# Altium footprint library Parts.PcbLib: 52 footprints (part 1 of 4)
Each footprint in its own frame and in the unit in brackets; x right, y up, seen from the top. Pads: shape width x height; smd on the part's side, far side on the other; paste and mask are expansions set on the pad; w line width, h text height; cw(c..) or ccw(c..) is an arc to the next point about the centre after c.
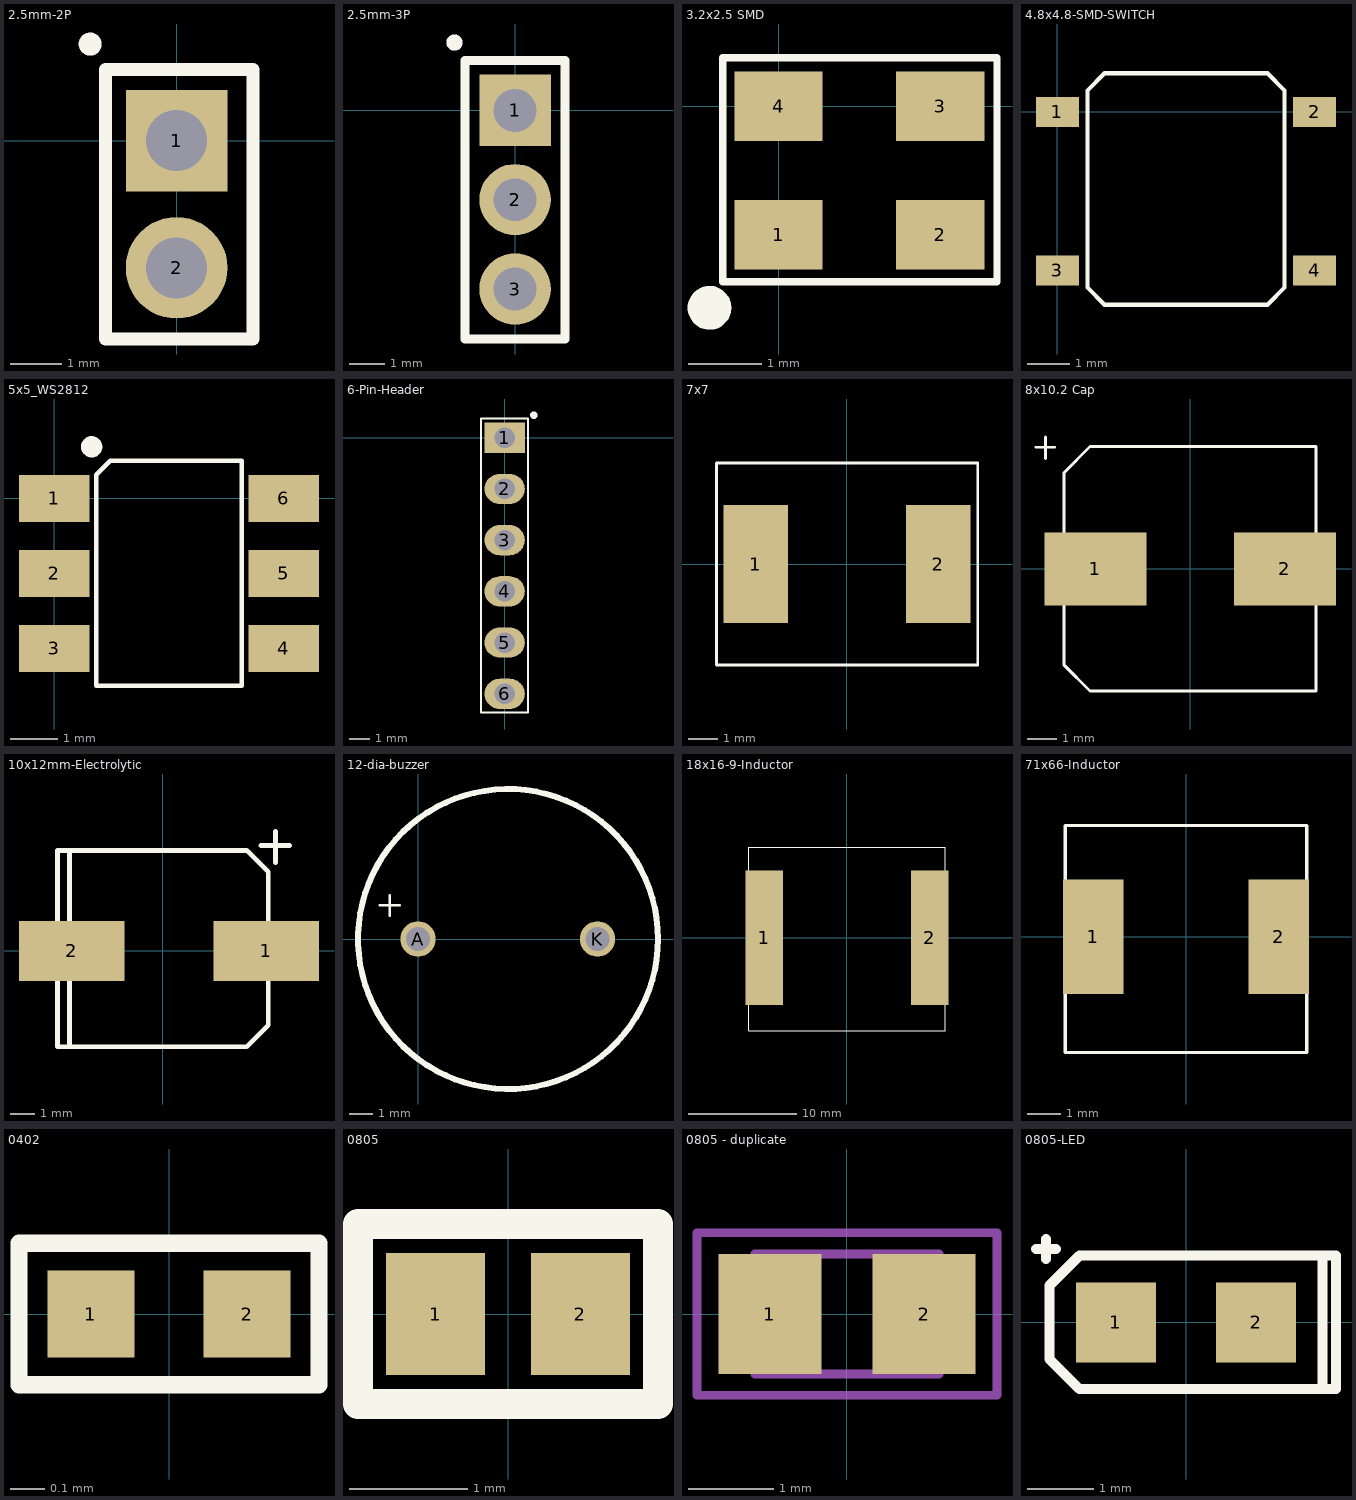
[diagram p0: the footprints below, top view; thin cyan lines are the x and y axes]

## 2.5mm-2P [mm]
pads (2):
  rect 2x2 hole 1.2: 1(0,0)
  round 2 hole 1.2: 2(0,-2.5)
Top Overlay:
  circle w0.254: c-1.7,1.9 r0.1
  lines w0.254: -1.4,-3.9 -1.4,-3.3 -1.4,1.4 1.5,1.4 1.5,-3.9 -1.4,-3.9

## 2.5mm-3P [mm]
pads (3):
  rect 2x2 hole 1.2: 1(0,0)
  round 2 hole 1.2: 2(0,-2.5) 3(0,-5)
Top Overlay:
  circle w0.254: c-1.7,1.9 r0.1
  lines w0.254: -1.4,-6.4 -1.4,-6.2 -1.4,1.4 1.4,1.4 1.4,-6.4 -1.4,-6.4

## 3.2x2.5 SMD [mm]
pads (4):
  rect 1.2x0.95 smd: 1(0,-1.75) 2(2.2,-1.75) 3(2.2,0) 4(0,0)
Top Overlay:
  circle w0.254: c-0.94,-2.743 r0.051
  circle w0.254: c-0.94,-2.743 r0.17
  lines w0.1: 0.663,0.66 2.972,0.66 2.972,-2.388 -0.762,-2.388 -0.762,0.66 1.538,0.66

## 4.8x4.8-SMD-SWITCH [mm]
pads (4):
  rect 1x0.7 smd: 1(0,0) 2(6,0) 3(0,-3.7) 4(6,-3.7)
Top Overlay:
  lines w0.1: 0.7,-4.1 0.7,0.5 1.1,0.9 4.9,0.9 5.3,0.5 5.3,-4.1 4.9,-4.5 1.1,-4.5 0.7,-4.1

## 5x5_WS2812 [mm]
pads (6):
  rect 1.5x1 smd: 1(0,0) 2(0,-1.6) 3(0,-3.2) 4(4.9,-3.2) 5(4.9,-1.6) 6(4.9,0)
Top Overlay:
  circle w0.254: c0.8,1.1 r0.1
  lines w0.1: 0.9,-4 0.9,0.5 1.2,0.8 4,0.8 4,-4 0.9,-4

## 6-Pin-Header [mm]
pads (6):
  rect 2x1.5 hole 1.02: 1(0,0)
  oval 2x1.5 hole 1.02: 2(0,-2.54) 3(0,-5.08) 4(0,-7.62) 5(0,-10.16) 6(0,-12.7)
Top Overlay:
  circle w0.254: c1.448,1.118 r0.057
  lines w0.1: -1.168,-13.614 -1.168,0.94 1.168,0.94 1.168,-13.614 -1.168,-13.614

## 7x7 [mm]
pads (2):
  rect 2.2x4 smd: 1(-3.1,0) 2(3.1,0)
Top Overlay:
  lines w0.1: -4.438,-3.429 -4.438,-0.494 -4.438,1.434 -4.438,3.429 4.445,3.429 4.445,-3.429 -4.438,-3.429

## 8x10.2 Cap [mm]
pads (2):
  rect 3.5x2.5 smd: 1(-3.25,0) 2(3.25,0)
Top Overlay:
  lines w0.1: -5.283,4.166 -4.648,4.166 ; -4.953,3.785 -4.953,4.521 ; -4.318,-3.302 -4.318,0.076 -4.318,3.302 -3.429,4.191 4.318,4.191 4.318,-4.191 -3.429,-4.191 -4.318,-3.302

## 10x12mm-Electrolytic [mm]
pads (2):
  rect 4.4x2.5 smd: 1(4.318,0) 2(-3.81,0)
Top Overlay:
  lines w0.2: -3.9,-4 -3.9,4.2 ; 4.1,4.4 5.3,4.4 ; 4.7,3.7 4.7,5 ; -4.4,-4 -4.4,4.2 3.5,4.2 4.4,3.3 4.4,-3.1 3.5,-4 -4.4,-4

## 12-dia-buzzer [mm]
pads (2):
  round 1.5 hole 1: A(0,0) K(7.6,0)
Top Overlay:
  circle w0.254: c3.81,0 r6.35
  lines w0.1: -1.626,1.422 -0.762,1.422 ; -1.194,0.991 -1.194,1.854 -1.194,1.422

## 18x16-9-Inductor [mm]
pads (2):
  rect 3.5x12.5 smd: 1(-7.675,0) 2(7.675,0)
Top Overlay:
  lines w0.1: -9.144,-8.636 0.588,-8.636 9.144,-8.636 9.144,8.382 -9.144,8.382 -9.144,-8.636

## 71x66-Inductor [mm]
pads (2):
  rect 1.8x3.4 smd: 1(-2.75,0) 2(2.75,0)
Top Overlay:
  lines w0.1: -3.581,-3.429 -3.581,0.631 -3.581,3.302 3.581,3.302 3.581,-3.429 -3.581,-3.429

## 0402 [mm]
pads (2):
  rect 0.25x0.25 smd mask+0.05: 1(-0.225,0) 2(0.225,0)
Top Overlay:
  lines w0.05: -0.432,-0.203 0.432,-0.203 0.432,0.203 -0.432,0.203 -0.432,-0.203

## 0805 [mil]
pads (2):
  rect 33x40.6 smd: 1(-24.15,0) 2(24.15,0)
Top Overlay:
  lines w10: -50,-30 -50,0 -50,30 50,30 50,-30 -50,-30

## 0805 - duplicate [mm] "Chip Resistor, Body 2.0x1.2mm, IPC Medium Density"
height 0.7
pads (2):
  rect 1.2x1.4 smd: 1(-0.9,0) 2(0.9,0)
Mechanical 13:
  lines w0.1: -1.075,-0.7 1.075,-0.7 1.075,0.7 -1.075,0.7 -1.075,-0.7
Mechanical 15:
  lines w0.1: -1.75,-0.95 1.75,-0.95 1.75,0.95 -1.75,0.95 -1.75,-0.95
3D body: height 0.7, standoff 0, extent -1.075,-0.7 1.075,0.7

## 0805-LED [mm]
pads (2):
  rect 1.2x1.2 smd: 1(-1.05,0) 2(1.05,0)
Top Overlay:
  lines w0.15: -2.25,1.1 -1.95,1.1 ; -2.1,0.95 -2.1,1.25 ; 2.05,-1 2.05,1 ; -2.05,-0.55 -2.05,0 -2.05,0.55 -1.6,1 2.25,1 2.25,-1 -1.6,-1 -2.05,-0.55